# Altium schematic symbol library SCH - MCU - SI LABS - SI LABS EFM32TG225F16 48-PIN BGA 4X4.SchLib: 1 symbol
Pins are listed as number, name and electrical type; pins without a type are passive.

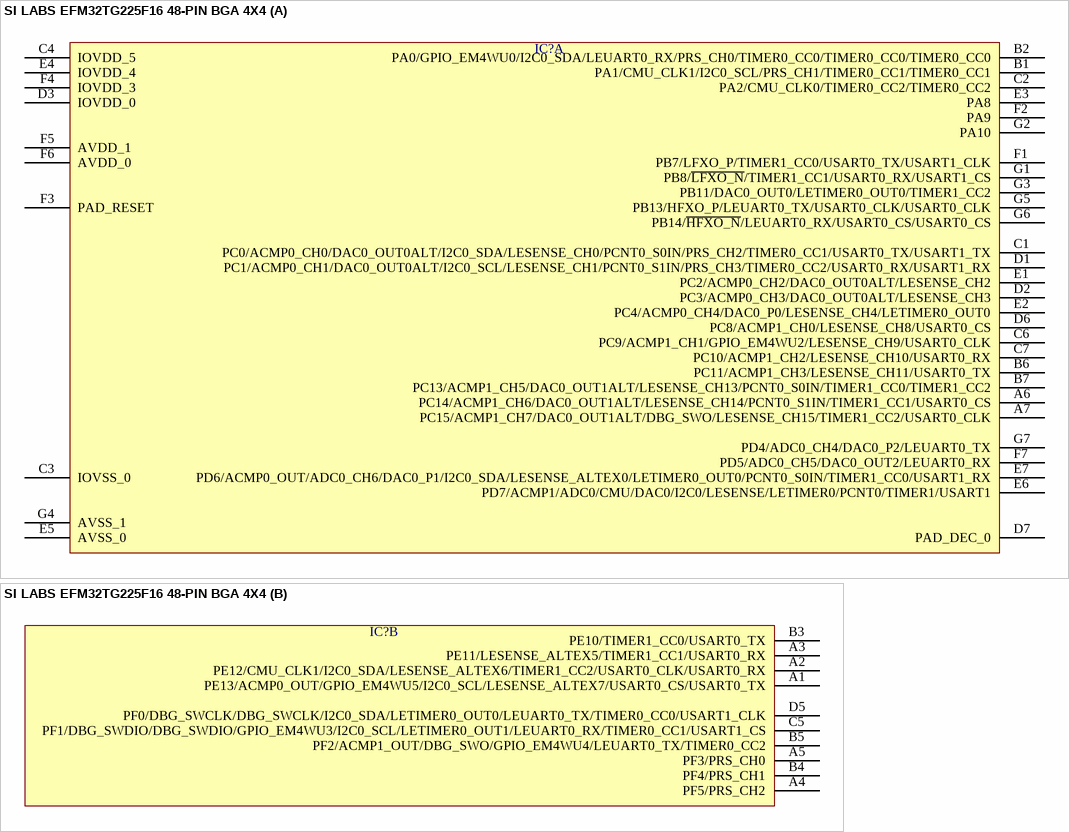
[diagram p0: symbol SI LABS EFM32TG225F16 48-PIN BGA 4X4]

## SI LABS EFM32TG225F16 48-PIN BGA 4X4
designator IC?  (value not drawn)
part A pins: A6 PC14/ACMP1_CH6/DAC0_OUT1ALT/LESENSE_CH14/PCNT0_S1IN/TIMER1_CC1/USART0_CS, A7 PC15/ACMP1_CH7/DAC0_OUT1ALT/DBG_SWO/LESENSE_CH15/TIMER1_CC2/USART0_CLK, B1 PA1/CMU_CLK1/I2C0_SCL/PRS_CH1/TIMER0_CC1/TIMER0_CC1, B2 PA0/GPIO_EM4WU0/I2C0_SDA/LEUART0_RX/PRS_CH0/TIMER0_CC0/TIMER0_CC0/TIMER0_CC0, B6 PC11/ACMP1_CH3/LESENSE_CH11/USART0_TX, B7 PC13/ACMP1_CH5/DAC0_OUT1ALT/LESENSE_CH13/PCNT0_S0IN/TIMER1_CC0/TIMER1_CC2, C1 PC0/ACMP0_CH0/DAC0_OUT0ALT/I2C0_SDA/LESENSE_CH0/PCNT0_S0IN/PRS_CH2/TIMER0_CC1/USART0_TX/USART1_TX, C2 PA2/CMU_CLK0/TIMER0_CC2/TIMER0_CC2, C3 IOVSS_0, C4 IOVDD_5, C6 PC9/ACMP1_CH1/GPIO_EM4WU2/LESENSE_CH9/USART0_CLK, C7 PC10/ACMP1_CH2/LESENSE_CH10/USART0_RX, D1 PC1/ACMP0_CH1/DAC0_OUT0ALT/I2C0_SCL/LESENSE_CH1/PCNT0_S1IN/PRS_CH3/TIMER0_CC2/USART0_RX/USART1_RX, D2 PC3/ACMP0_CH3/DAC0_OUT0ALT/LESENSE_CH3, D3 IOVDD_0, D6 PC8/ACMP1_CH0/LESENSE_CH8/USART0_CS, D7 PAD_DEC_0, E1 PC2/ACMP0_CH2/DAC0_OUT0ALT/LESENSE_CH2, E2 PC4/ACMP0_CH4/DAC0_P0/LESENSE_CH4/LETIMER0_OUT0, E3 PA8, E4 IOVDD_4, E5 AVSS_0, E6 PD7/ACMP1/ADC0/CMU/DAC0/I2C0/LESENSE/LETIMER0/PCNT0/TIMER1/USART1, E7 PD6/ACMP0_OUT/ADC0_CH6/DAC0_P1/I2C0_SDA/LESENSE_ALTEX0/LETIMER0_OUT0/PCNT0_S0IN/TIMER1_CC0/USART1_RX, F1 PB7/LFXO_P/TIMER1_CC0/USART0_TX/USART1_CLK, F2 PA9, F3 PAD_RESET, F4 IOVDD_3, F5 AVDD_1, F6 AVDD_0, F7 PD5/ADC0_CH5/DAC0_OUT2/LEUART0_RX, G1 PB8/~{LFXO_N}/TIMER1_CC1/USART0_RX/USART1_CS, G2 PA10, G3 PB11/DAC0_OUT0/LETIMER0_OUT0/TIMER1_CC2, G4 AVSS_1, G5 PB13/HFXO_P/LEUART0_TX/USART0_CLK/USART0_CLK, G6 PB14/~{HFXO_N}/LEUART0_RX/USART0_CS/USART0_CS, G7 PD4/ADC0_CH4/DAC0_P2/LEUART0_TX
part B pins: A1 PE13/ACMP0_OUT/GPIO_EM4WU5/I2C0_SCL/LESENSE_ALTEX7/USART0_CS/USART0_TX, A2 PE12/CMU_CLK1/I2C0_SDA/LESENSE_ALTEX6/TIMER1_CC2/USART0_CLK/USART0_RX, A3 PE11/LESENSE_ALTEX5/TIMER1_CC1/USART0_RX, A4 PF5/PRS_CH2, A5 PF3/PRS_CH0, B3 PE10/TIMER1_CC0/USART0_TX, B4 PF4/PRS_CH1, B5 PF2/ACMP1_OUT/DBG_SWO/GPIO_EM4WU4/LEUART0_TX/TIMER0_CC2, C5 PF1/DBG_SWDIO/DBG_SWDIO/GPIO_EM4WU3/I2C0_SCL/LETIMER0_OUT1/LEUART0_RX/TIMER0_CC1/USART1_CS, D5 PF0/DBG_SWCLK/DBG_SWCLK/I2C0_SDA/LETIMER0_OUT0/LEUART0_TX/TIMER0_CC0/USART1_CLK